# Altium footprint library LED Lighting - White.PcbLib: 3 footprints
Each footprint in its own frame and in the unit in brackets; x right, y up, seen from the top. Pads: shape width x height; smd on the part's side, far side on the other; paste and mask are expansions set on the pad; w line width, h text height; cw(c..) or ccw(c..) is an arc to the next point about the centre after c.
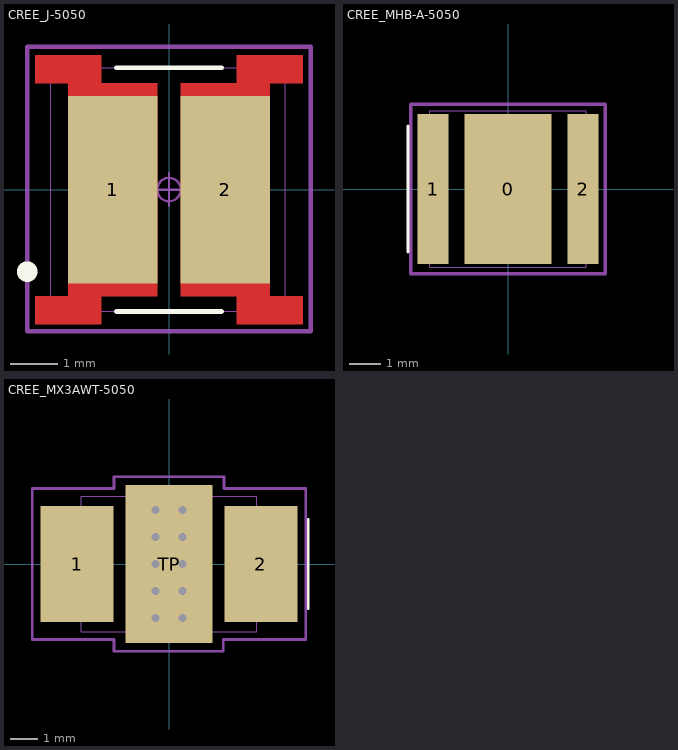
[diagram p0: the footprints below, top view; thin cyan lines are the x and y axes]

## CREE_J-5050 [mm]
pads (2):
  rect 1.9x4 smd mask+0.04: 1(-1.2,0) 2(1.2,0)
Top Layer:
  region: -2.85,-2.87 -2.85,-2.27 -2.15,-2.27 -2.15,2.27 -2.85,2.27 -2.85,2.87 -1.45,2.87 -1.45,2.27 -0.25,2.27 -0.25,-2.27 -1.45,-2.27 -1.45,-2.87
  region: 1.45,-2.87 1.45,-2.27 0.25,-2.27 0.25,2.27 1.45,2.27 1.45,2.87 2.85,2.87 2.85,2.27 2.15,2.27 2.15,-2.27 2.85,-2.27 2.85,-2.87
Top Overlay:
  circle w0.24: c-3.025,-1.75 r0.1
  lines w0.1: -1.125,-2.6 1.125,-2.6 ; -1.125,2.6 1.125,2.6
Mechanical 13:
  lines w0.025: -2.525,-2.6 -2.525,2.6 2.475,2.6 2.475,-2.6 -2.525,-2.6 ; -1.96,-1.816 -0.44,-1.816 -0.44,1.816 -1.96,1.816 -1.96,-1.816 ; 0.44,-1.816 1.96,-1.816 1.96,1.816 0.44,1.816 0.44,-1.816
Mechanical 15:
  circle w0.05: c0,0 r0.25
  lines w0.05: -0.35,0 0.35,0 ; 0,-0.35 0,0.35
  lines w0.1: -3.023,-3.023 -3.023,3.048 3.023,3.048 3.023,-3.023 -3.023,-3.023
3D body "User Library-JR-5050-3D assembling a part.STEP": height 0.69, standoff -0.01, extent -2.53,-2.589 2.47,2.591

## CREE_MHB-A-5050 [mm]
pads (3):
  rect 2.78x4.78 smd mask+0.04: 0(0,0)
  rect 1x4.78 smd mask+0.04: 1(-2.39,0) 2(2.39,0)
Top Overlay:
  lines w0.1: -3.181,-2 -3.181,2
Mechanical 13:
  lines w0.025: -2.5,-2.5 2.5,-2.5 2.5,2.5 -2.5,2.5 -2.5,-2.5
Mechanical 15:
  circle w0.05: c0,0 r0.25
  lines w0.05: -0.35,0 0.35,0 ; 0,-0.35 0,0.35
  lines w0.1: -3.099,-2.7 3.099,-2.7 3.099,2.7 -3.099,2.7 -3.099,-2.7
3D body "MHBA.step": height 1.5, standoff -0.01, extent -2.5,-2.5 2.5,2.5

## CREE_MX3AWT-5050 [mm]
pads (3):
  rect 2.7x4.3 smd mask+0.04: 1(-3.4,0) 2(3.4,0)
  rect 3.23x5.84 smd mask+0.04: TP(0,0)
via 0.5,-2 diameter 0.5 hole 0.3
via -0.5,-2 diameter 0.5 hole 0.3
via -0.5,-1 diameter 0.5 hole 0.3
via 0.5,-1 diameter 0.5 hole 0.3
via -0.5,2 diameter 0.5 hole 0.3
via -0.5,1 diameter 0.5 hole 0.3
via 0.5,2 diameter 0.5 hole 0.3
via 0.5,1 diameter 0.5 hole 0.3
via 0.5,0 diameter 0.5 hole 0.3
via -0.5,0 diameter 0.5 hole 0.3
Top Overlay:
  lines w0.1: 5.156,-1.651 5.156,1.651
Mechanical 13:
  lines w0.025: -3.25,-2.5 3.25,-2.5 3.25,2.5 -3.25,2.5 -3.25,-2.5
Mechanical 15:
  circle w0.05: c0,0 r0.25
  lines w0.05: -0.35,0 0.35,0 ; 0,-0.35 0,0.35
  lines w0.1: -5.055,-2.794 -5.055,2.794 -2.032,2.794 -2.032,3.226 2.032,3.226 2.032,2.794 5.055,2.794 5.055,-2.794 2.007,-2.794 2.007,-3.226 -2.032,-3.226 -2.032,-2.794 -5.055,-2.794
3D body "xlamp_mx-x.step": height 1.35, standoff 0, extent -3.25,-2.5 3.25,2.5